# Altium schematic symbol library Altium_Library_Design.SchLib: 234 symbols (part 2 of 2)
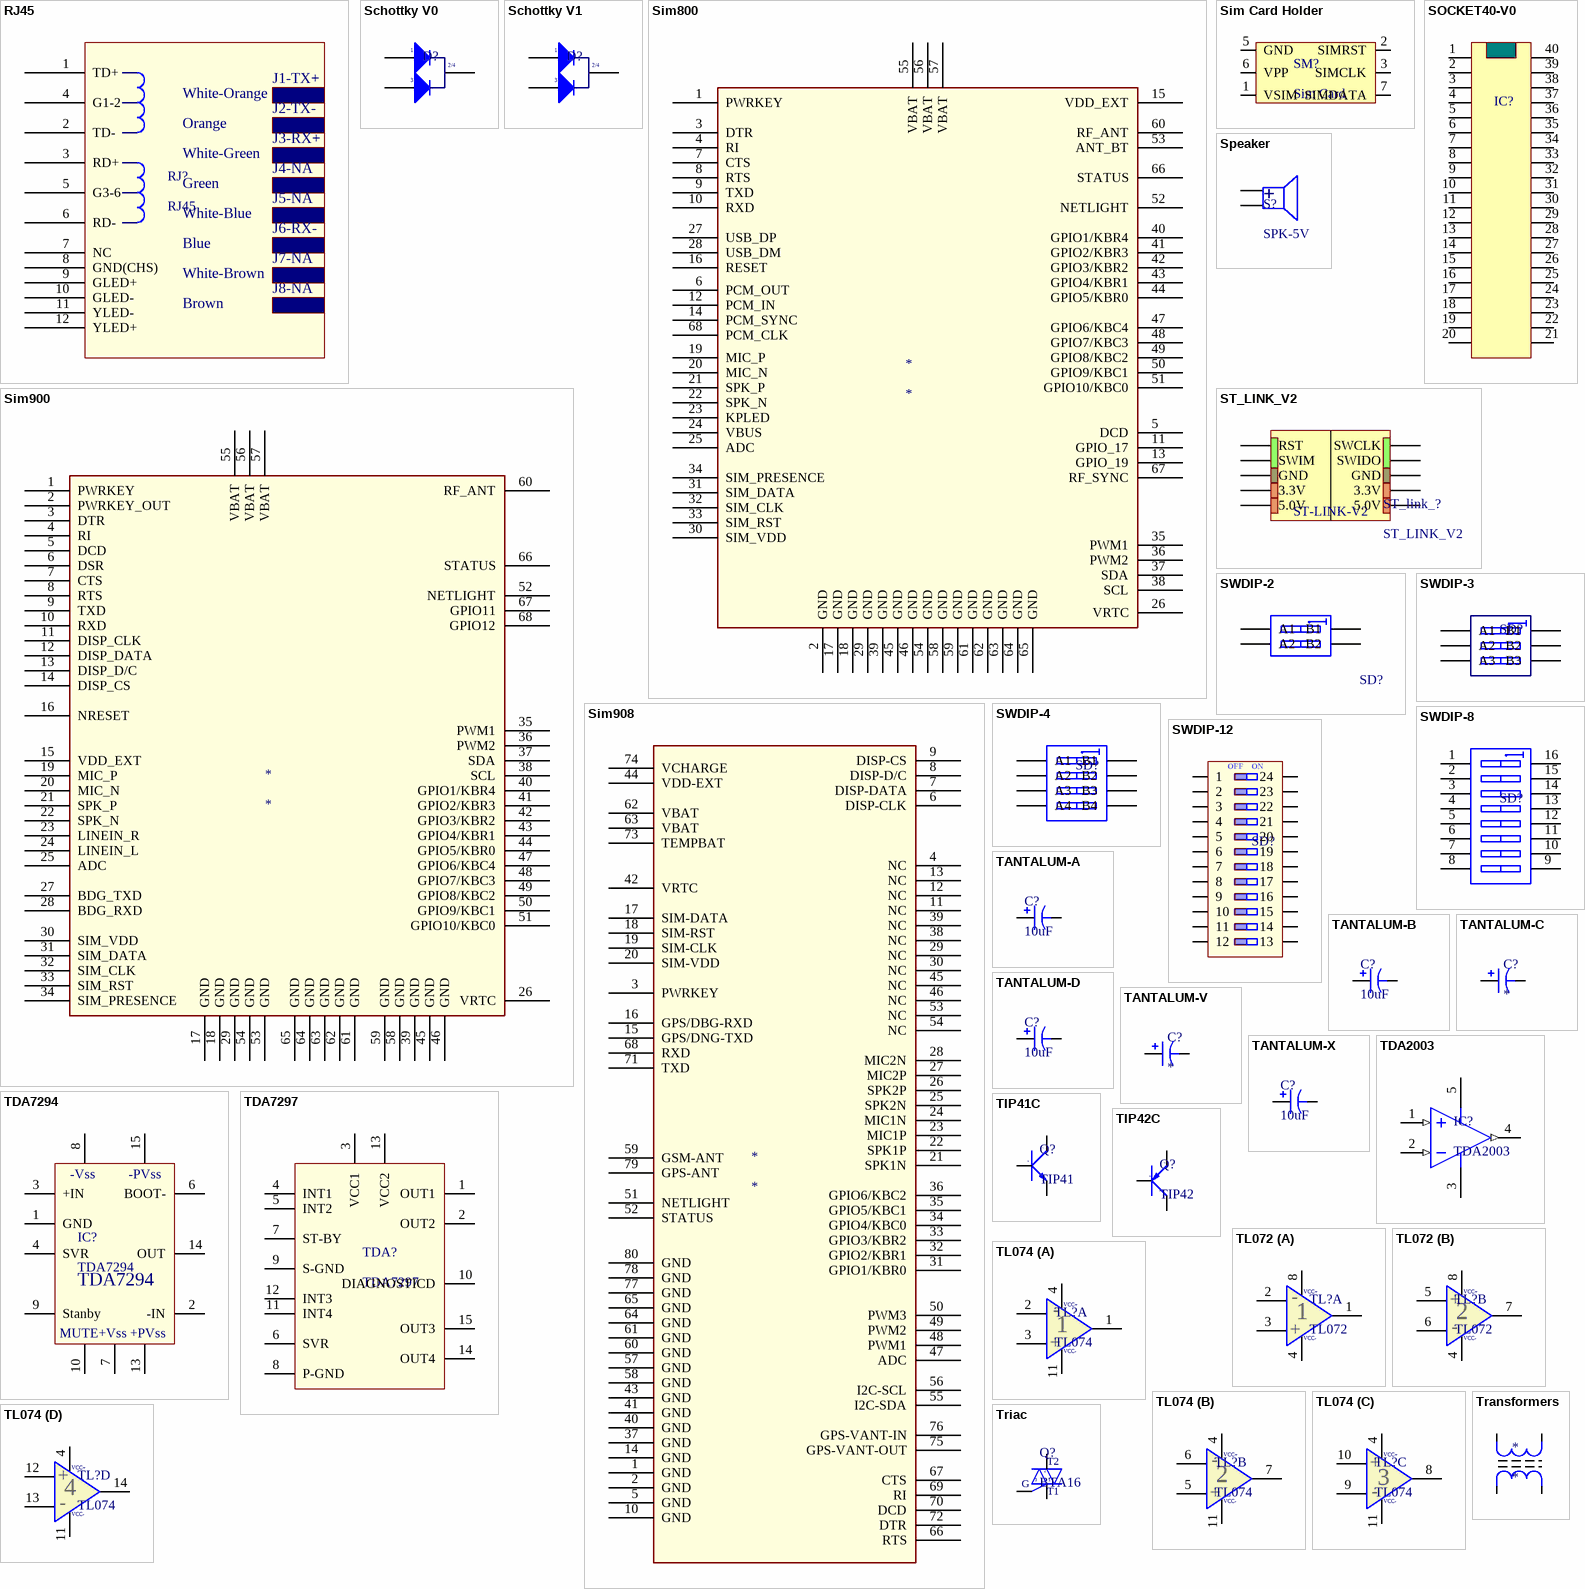
[diagram p10: symbols RJ45 to Triac]

## RJ45
designator RJ?
footprint RJ45-V0
footprint RJ45-V1
pins: 1 TD+, 2 TD-, 3 RD+, 4 G1-2, 5 G3-6, 6 RD-, 7 NC, 8 GND(CHS), 9 GLED+, 10 GLED-, 11 YLED-, 12 YLED+
text: J1-TX+; White-Orange; J2-TX-; Orange; J3-RX+; White-Green; J4-NA; Green; J5-NA; White-Blue; J6-RX-; Blue; J7-NA; White-Brown; J8-NA; Brown

## Schottky V0
designator D?, comment MBR2080CTG  (value not drawn)
1N4007: 3A-1000V; 1N5822: SS34-3A-40V; 1N5819: SS14-1A-40V; FR107: 1A-1000V; FR307: 3A-1000V; 1N5408: 1A-1000V
footprint TO220-A
footprint TO220-B
footprint TO220-C
footprint MBR20100 --> 80-100v / 20A (Footprint not found)
footprint MBR40100C --> 100v / 40A (Footprint not found)
footprint MBR10200 --> 200v / 10A (Footprint not found)
footprint MBR10100 --> 100v / 10A (Footprint not found)
footprint D2PAK
footprint TO220-D
pins: 1 +, 2 -, 3 +
text: 2/4

## Schottky V1
designator D?, comment MBR2080CTG  (value not drawn)
1N4007: 3A-1000V; 1N5822: SS34-3A-40V; 1N5819: SS14-1A-40V; FR107: 1A-1000V; FR307: 3A-1000V; 1N5408: 1A-1000V
footprint MBR40100PT --> 40-100v / 40A (Footprint not found)
footprint MBR4045 --> 45V/40A (Footprint not found)
footprint TO247-A
footprint TO247-B
footprint TO247-C
footprint TO247-D
footprint TO247-E
pins: 1 +, 2 -, 3 +
text: 2/4

## Sim800
designator *
footprint SIM-800
pins: 1 PWRKEY, 2 GND, 3 DTR, 4 RI, 5 DCD, 6 PCM_OUT, 7 CTS, 8 RTS, 9 TXD, 10 RXD, 11 GPIO_17, 12 PCM_IN, 13 GPIO_19, 14 PCM_SYNC, 15 VDD_EXT, 16 RESET, 17 GND, 18 GND, 19 MIC_P, 20 MIC_N, 21 SPK_P, 22 SPK_N, 23 KPLED, 24 VBUS, 25 ADC, 26 VRTC, 27 USB_DP, 28 USB_DM, 29 GND, 30 SIM_VDD, 31 SIM_DATA, 32 SIM_CLK, 33 SIM_RST, 34 SIM_PRESENCE, 35 PWM1, 36 PWM2, 37 SDA, 38 SCL, 39 GND, 40 GPIO1/KBR4, 41 GPIO2/KBR3, 42 GPIO3/KBR2, 43 GPIO4/KBR1, 44 GPIO5/KBR0, 45 GND, 46 GND, 47 GPIO6/KBC4, 48 GPIO7/KBC3, 49 GPIO8/KBC2, 50 GPIO9/KBC1, 51 GPIO10/KBC0, 52 NETLIGHT, 53 ANT_BT, 54 GND, 55 VBAT, 56 VBAT, 57 VBAT, 58 GND, 59 GND, 60 RF_ANT, 61 GND, 62 GND, 63 GND, 64 GND, 65 GND, 66 STATUS, 67 RF_SYNC, 68 PCM_CLK

## Sim900
designator *
footprint SIM-900 (A001)
pins: 1 PWRKEY, 2 PWRKEY_OUT, 3 DTR, 4 RI, 5 DCD, 6 DSR, 7 CTS, 8 RTS, 9 TXD, 10 RXD, 11 DISP_CLK, 12 DISP_DATA, 13 DISP_D/C, 14 DISP_CS, 15 VDD_EXT, 16 NRESET, 17 GND, 18 GND, 19 MIC_P, 20 MIC_N, 21 SPK_P, 22 SPK_N, 23 LINEIN_R, 24 LINEIN_L, 25 ADC, 26 VRTC, 27 BDG_TXD, 28 BDG_RXD, 29 GND, 30 SIM_VDD, 31 SIM_DATA, 32 SIM_CLK, 33 SIM_RST, 34 SIM_PRESENCE, 35 PWM1, 36 PWM2, 37 SDA, 38 SCL, 39 GND, 40 GPIO1/KBR4, 41 GPIO2/KBR3, 42 GPIO3/KBR2, 43 GPIO4/KBR1, 44 GPIO5/KBR0, 45 GND, 46 GND, 47 GPIO6/KBC4, 48 GPIO7/KBC3, 49 GPIO8/KBC2, 50 GPIO9/KBC1, 51 GPIO10/KBC0, 52 NETLIGHT, 53 GND, 54 GND, 55 VBAT, 56 VBAT, 57 VBAT, 58 GND, 59 GND, 60 RF_ANT, 61 GND, 62 GND, 63 GND, 64 GND, 65 GND, 66 STATUS, 67 GPIO11, 68 GPIO12

## Sim908
designator *
footprint SIM-908
pins: 1 GND, 2 GND, 3 PWRKEY, 4 NC, 5 GND, 6 DISP-CLK, 7 DISP-DATA, 8 DISP-D/C, 9 DISP-CS, 10 GND, 11 NC, 12 NC, 13 NC, 14 GND, 15 GPS/DNG-TXD, 16 GPS/DBG-RXD, 17 SIM-DATA, 18 SIM-RST, 19 SIM-CLK, 20 SIM-VDD, 21 SPK1N, 22 SPK1P, 23 MIC1P, 24 MIC1N, 25 SPK2N, 26 SPK2P, 27 MIC2P, 28 MIC2N, 29 NC, 30 NC, 31 GPIO1/KBR0, 32 GPIO2/KBR1, 33 GPIO3/KBR2, 34 GPIO4/KBC0, 35 GPIO5/KBC1, 36 GPIO6/KBC2, 37 GND, 38 NC, 39 NC, 40 GND, 41 GND, 42 VRTC, 43 GND, 44 VDD-EXT, 45 NC, 46 NC, 47 ADC, 48 PWM1, 49 PWM2, 50 PWM3, 51 NETLIGHT, 52 STATUS, 53 NC, 54 NC, 55 I2C-SDA, 56 I2C-SCL, 57 GND, 58 GND, 59 GSM-ANT, 60 GND, 61 GND, 62 VBAT, 63 VBAT, 64 GND, 65 GND, 66 RTS, 67 CTS, 68 RXD, 69 RI, 70 DCD, 71 TXD, 72 DTR, 73 TEMPBAT, 74 VCHARGE, 75 GPS-VANT-OUT, 76 GPS-VANT-IN, 77 GND, 78 GND, 79 GPS-ANT, 80 GND

## Sim Card Holder
designator SM?, comment Sim Card
footprint SIM CARD SK06 (A001)
footprint SIM CARD SK30
footprint SIM CARD MICRO V1
footprint SIM CARD NANO
footprint SIM CARD MICRO V2
pins: 1 VSIM, 2 SIMRST, 3 SIMCLK, 5 GND, 6 VPP, 7 SIMDATA

## SOCKET40-V0
designator IC?
footprint SOCKET40-V0
footprint SOCKET40-V1
pins: 1, 2, 3, 4, 5, 6, 7, 8, 9, 10, 11, 12, 13, 14, 15, 16, 17, 18, 19, 20, 21, 22, 23, 24, 25, 26, 27, 28, 29, 30, 31, 32, 33, 34, 35, 36, 37, 38, 39, 40

## Speaker
designator S?, comment SPK-5V
footprint SPK-V1
footprint SPK-V0
pins: 1, 2

## ST_LINK_V2
designator ST_link_?
footprint IDE5x2-V0
pins: 1 RST, 2 SWCLK, 3 SWIM, 4 SWIDO, 5 GND, 6 GND, 7 3.3V, 7 3.3V, 9 5.0V, 10 5.0V
text: ST-LINK-V2

## SWDIP-2
designator SD?, comment SW - DIP2  (value not drawn)
DIP Switch; Value: SW - DIP2
footprint SW2-DIP4
pins: 1 A1, 2 A2, 3 B2, 4 B1

## SWDIP-3
designator SD?, comment SW - DIP3  (value not drawn)
DIP Switch; Value: SW - DIP2
footprint SW3-DIP6
pins: 1 A1, 2 A2, 3 A3, 4 B3, 5 B2, 6 B1

## SWDIP-4
designator SD?, comment SW - DIP4  (value not drawn)
DIP Switch; Value: SW - DIP4
footprint SW4-SMD
footprint SW4-DIP8
pins: 1 A1, 2 A2, 3 A3, 4 A4, 5 B4, 6 B3, 7 B2, 8 B1

## SWDIP-8
designator SD?, comment SW - DIP8  (value not drawn)
DIP Switch; Value: SW - DIP8
footprint SW8-DIP16
pins: 1 A1, 2 A2, 3 A3, 4 A4, 5 A5, 6 A6, 7 A7, 8 A8, 9 B8, 10 B7, 11 B6, 12 B5, 13 B4, 14 B3, 15 B2, 16 B1

## SWDIP-12
designator SD?, comment SW - DIP12  (value not drawn)
DIP Switch; Value: SW - DIP12
footprint SW12-DIP24
pins: 1, 2, 3, 4, 5, 6, 7, 8, 9, 10, 11, 12, 13, 14, 15, 16, 17, 18, 19, 20, 21, 22, 23, 24
text: OFF; ON

## TANTALUM-A
designator C?, comment 10uF
470UF: 35V; 3300UF: 16V; 1000UF: 25V
footprint TANTALUM-A-3216-18
footprint 33uF/6.3V (Footprint not found)
pins: 1, 2

## TANTALUM-B
designator C?, comment 10uF
470UF: 35V; 3300UF: 16V; 1000UF: 25V
footprint 10uF/16V (Footprint not found)
footprint TANTALUM-B-3528-21
footprint 220uF/4V (Footprint not found)
pins: 1, 2

## TANTALUM-C
designator C?
footprint 100uF/10V (Footprint not found)
footprint TANTALUM-C-6032-28
footprint 10uF/25V (Footprint not found)
footprint 10uF/20V (Footprint not found)
pins: 1, 2

## TANTALUM-D
designator C?, comment 10uF
470UF: 35V; 3300UF: 16V; 1000UF: 25V
footprint TANTALUM-D-7343-31
footprint 220uF/10V (Footprint not found)
footprint 22uF/35V (Footprint not found)
footprint 150uF/16V (Footprint not found)
footprint 47uF/16V (Footprint not found)
pins: 1, 2

## TANTALUM-V
designator C?
footprint TANTALUM-V-7343-20
footprint 330uF/6.3V (Footprint not found)
footprint 150uF/10V (Footprint not found)
pins: 1, 2

## TANTALUM-X
designator C?, comment 10uF
470UF: 35V; 3300UF: 16V; 1000UF: 25V
footprint TANTALUM-X-7343-43
footprint 47uF/35V (Footprint not found)
footprint 15uF/65V (Footprint not found)
footprint 680uF/6.3V (Footprint not found)
footprint 330uF/10V (Footprint not found)
footprint 220uF/16V (Footprint not found)
footprint 22uF/35V (Footprint not found)
pins: 1, 2

## TDA2003
designator IC?
10W CAR RADIO AUDIO AMPLIFIER; TDA2030: 12w/4R/8w-8R; TDA2050: 32w-8R/35w-4R
footprint DIP5-V0-Package
pins: 1 IN+ (in), 2 IN- (in), 3 V- (power), 4 OUT (out), 5 V+ (power)

## TDA7294
designator IC?
100W
footprint DIP15-V0-Package
pins: 1 GND, 2 -IN, 3 +IN, 4 SVR, 6 BOOT-, 7 +Vss, 8, 9 Stanby, 10, 13 +PVss, 14 OUT, 15
text: -Vss; -PVss; MUTE

## TDA7297
designator TDA?
15w-15w-18V
footprint DIP15-V0-Package
pins: 1 OUT1, 2 OUT2, 3 VCC1, 4 INT1, 5 INT2, 6 SVR, 7 ST-BY, 8 P-GND, 9 S-GND, 10 DIAGNOSTICD, 11 INT4, 12 INT3, 13 VCC2, 14 OUT4, 15 OUT3

## TIP41C
designator Q?, comment TIP41
NPN, Ic(C->E), Ib(B->E)
footprint TO220-A
footprint TO220-B
footprint TO220-C
pins: 1 B, 2 C, 3 E

## TIP42C
designator Q?, comment TIP42
PNP, Ic(E->C), Ib(E->B)
footprint TO220-A
footprint TO220-B
footprint TO220-C
pins: 1 B, 2 C, 3 E

## TL072
designator TL?
18V
footprint DIP8-V0-Package
part A pins: 1, 2 -, 3 +, 4 VCC-, 8 VCC+
part B pins: 4 VCC-, 5 +, 6 -, 7, 8 VCC+

## TL074
designator TL?
18V
footprint DIP14-V0-Package
part A pins: 1, 2 -, 3 +, 4 VCC+, 11 VCC-
part B pins: 4 VCC+, 5 +, 6 -, 7, 11 VCC-
part C pins: 4 VCC+, 8, 9 -, 10 +, 11 VCC-
part D pins: 4 VCC+, 11 VCC-, 12 +, 13 -, 14

## Transformers
designator *
pins: 0, 0, 0, 0

## Triac
designator Q?, comment BTA16
footprint TO-220-
footprint BT136-600V-4A (Footprint not found)
footprint BTA16-16A (Footprint not found)
footprint BTA12-600V-12A (Footprint not found)
footprint BTA08-600V-8A (Footprint not found)
footprint BT137-8A (Footprint not found)
footprint BTA20-600V-20A (Footprint not found)
footprint BTA06-600V-6A (Footprint not found)
footprint TO-220
pins: 1 T1, 2 T2, 3 G

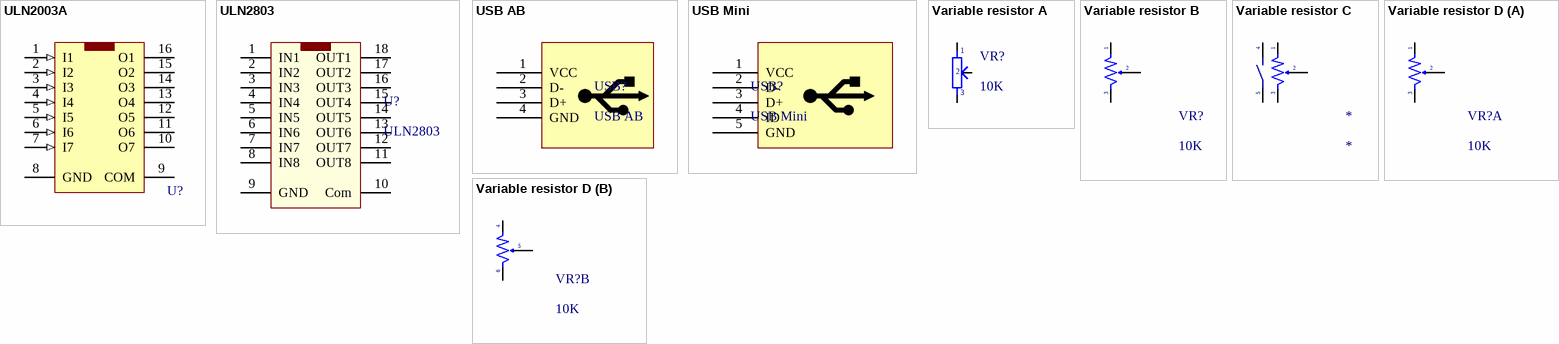
[diagram p9: symbols ULN2003A to Variable resistor D]

## ULN2003A
designator U?, comment ULN2003  (value not drawn)
IC dem
footprint DIP16-V0-Package
pins: 1 I1 (in), 2 I2 (in), 3 I3 (in), 4 I4 (in), 5 I5 (in), 6 I6 (in), 7 I7 (in), 8 GND (power), 9 COM, 10 O7 (oc), 11 O6 (oc), 12 O5 (oc), 13 O4 (oc), 14 O3 (oc), 15 O2 (oc), 16 O1 (oc)

## ULN2803
designator U?
IC dem
footprint DIP18-V0-Package
pins: 1 IN1, 2 IN2, 3 IN3, 4 IN4, 5 IN5, 6 IN6, 7 IN7, 8 IN8, 9 GND, 10 Com, 11 OUT8, 12 OUT7, 13 OUT6, 14 OUT5, 15 OUT4, 16 OUT3, 17 OUT2, 18 OUT1

## USB AB
designator USB?
footprint USB-S
footprint USB-AD
footprint USB-A_SMD (For USB SMD)
footprint USB-AC
pins: 1 VCC, 2 D-, 3 D+, 4 GND

## USB Mini
designator USB?
footprint USB-MINI-SMD
footprint USB-MINI
pins: 1 VCC, 2 D-, 3 D+, 4 ID, 5 GND

## Variable resistor A
designator VR?, comment 10K
footprint VResistor-Package_A
footprint VResistor-Package_B
footprint VResistor-Package_C
pins: 1, 2, 3

## Variable resistor B
designator VR?, comment 10K
footprint VResistor-Package_D
pins: 1, 2, 3

## Variable resistor C
designator *
footprint VResistor-Package_E
pins: 1, 2, 3, 4, 5

## Variable resistor D
designator VR?, comment 10K
footprint VResistor-Package_F
part A pins: 1, 2, 3
part B pins: 4, 5, 6